# Altium schematic symbol library SW_Tactile_180D_SPST_NO_ESD.Schlib: 1 symbol
Pins are listed as number, name and electrical type; pins without a type are passive.

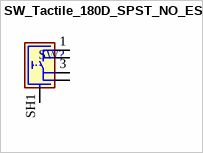
[diagram p0: symbol SW_Tactile_180D_SPST_NO_ESD]

## SW_Tactile_180D_SPST_NO_ESD
designator SW?
Tactile switch 6x6mm vertical trough hole ESD
pins: 1, 2, 3, 4 SH2, SH1